# Altium schematic symbol library Antenna.SchLib: 1 symbol
Pins are listed as number, name and electrical type; pins without a type are passive.

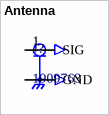
[diagram p0: symbol Antenna]

## Antenna
designator J?, comment 1909763
VAO ITEM, MINI RF HEADER; MP: 1909763-1; Value: *; Package: None; Availability: Unavailable; Price: None
footprint TE_1909763-1
pins: 1 SIG, 2 GND, 3 GND